# Altium footprint library Molex 533980971.PcbLib: 1 footprints
Each footprint in its own frame and in the unit in brackets; x right, y up, seen from the top. Pads: shape width x height; smd on the part's side, far side on the other; paste and mask are expansions set on the pad; w line width, h text height; cw(c..) or ccw(c..) is an arc to the next point about the centre after c.
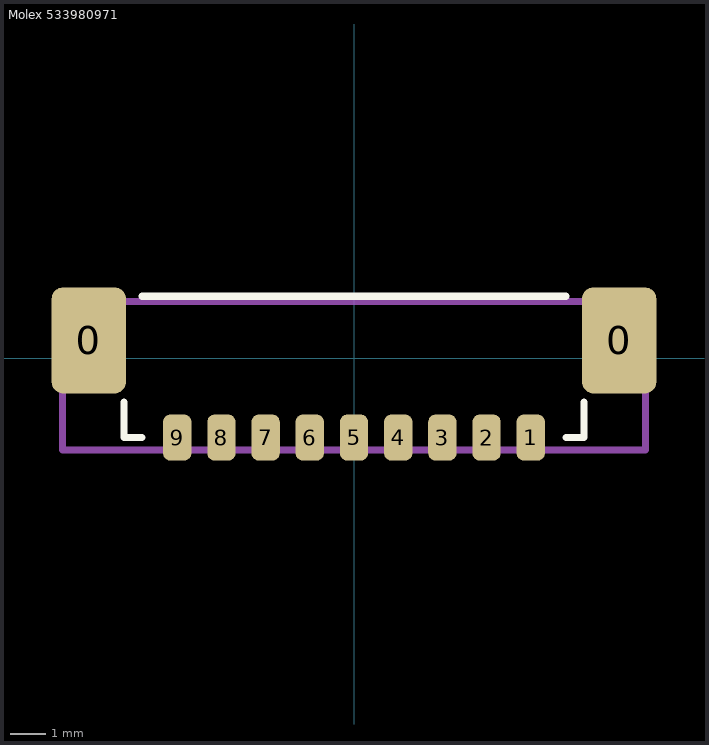
[diagram p0: the footprint, top view; thin cyan lines are the x and y axes]

## Molex 533980971 [mm] "1.25mm Pitch, PicoBlade PCB Header, Single Row, Vertical, Surface Mount"
height 2
pads (11):
  rrect30% 2.1x3 smd: 0(-7.5,0.5) 0(7.5,0.5)
  rrect50% 0.8x1.3 smd: 1(5,-2.25) 2(3.75,-2.25) 3(2.5,-2.25) 4(1.25,-2.25) 5(0,-2.25) 6(-1.25,-2.25) 7(-2.5,-2.25) 8(-3.75,-2.25) 9(-5,-2.25)
Top Overlay:
  lines w0.2: -6.5,-1.25 -6.5,-2.25 -6,-2.25 ; -6,1.75 6,1.75 ; 6,-2.25 6.5,-2.25 6.5,-1.25
Top 3D Body:
  lines w0.2: -8.25,-2.6 8.25,-2.6 8.25,1.6 -8.25,1.6 -8.25,-2.6
3D body "533980971.stp": height 4.74, standoff 0, extent -8.2,-2.6 8.2,1.6